# Altium schematic symbol library LTC3534.SchLib: 1 symbol
Pins are listed as number, name and electrical type; pins without a type are passive.

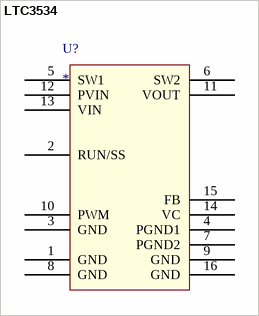
[diagram p0: symbol LTC3534]

## LTC3534
designator U?
pins: 1 GND, 2 RUN/SS, 3 GND, 4 PGND1, 5 SW1, 6 SW2, 7 PGND2, 8 GND, 9 GND, 10 PWM, 11 VOUT, 12 PVIN, 13 VIN, 14 VC, 15 FB, 16 GND